# EAGLE library part TTP223E (library ds_ic_peripherals)
1 key Touch Pad Detector IC
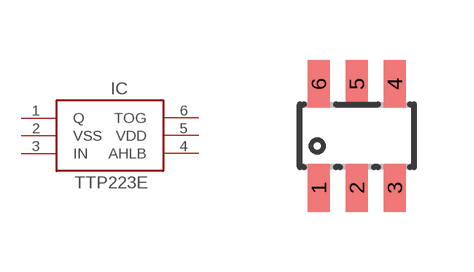
[diagram p29: symbol with the pads of SOT23-6; footprint SOT23-6]

Designator prefix IC

## TTP223E  [SOT23-6]
1  Q
2  VSS
3  IN
4  AHLB
5  VDD
6  TOG

## Footprint SOT23-6 (pad centres in mm)
smd 0.55 x 1.2: 1 -0.95,-1.3; 2 0,-1.3; 3 0.95,-1.3; 4 0.95,1.3; 5 0,1.3; 6 -0.95,1.3